# EAGLE library part TPS54229_DDA_8 (library 0_soofa_library)
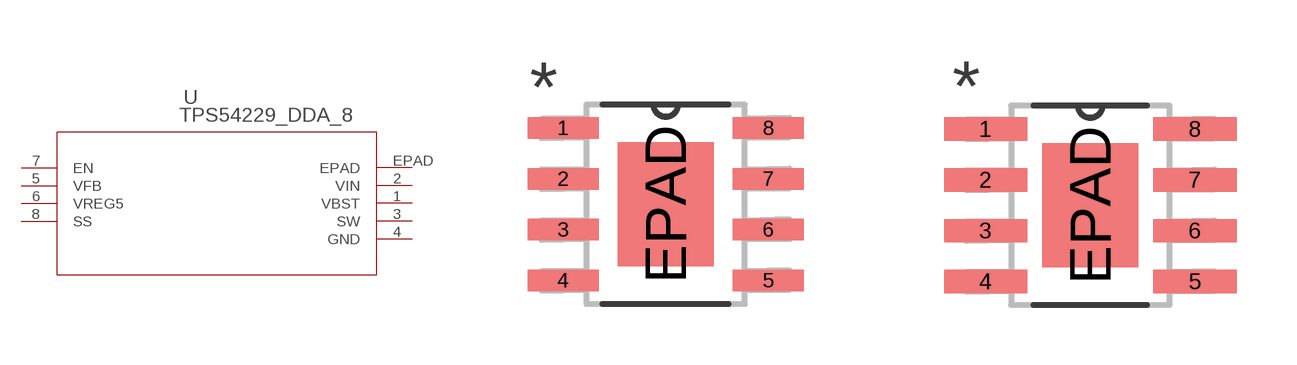
[diagram p15: symbol with the pads of DDA8_3P1X2P4; footprints DDA8_3P1X2P4, DDA8_3P1X2P4-M]

Designator prefix U

## TPS54229_DDA_8 (MANUFACTURER_PART_NUMBER: tps54229_dda_8; VENDOR: Texas Instruments)  [DDA8_3P1X2P4]
1  VBST  pas
2  VIN  in
3  SW  pas
4  GND  pwr
5  VFB  in
6  VREG5  out
7  EN  in
8  SS  pas
EPAD  EPAD  pas

## TPS54229_DDA_8DDA8_3P1X2P4-M (MANUFACTURER_PART_NUMBER: tps54229_dda_8; VENDOR: Texas Instruments)  [DDA8_3P1X2P4-M]
1  EN  in
2  VFB  in
3  VREG5  out
4  SS  pas
5  GND  pwr
6  SW  pas
7  VBST  pas
8  VIN  in
EPAD  EPAD  pas

## TPS54229_DDA_8DDA8_3P1X2P4-L (MANUFACTURER_PART_NUMBER: tps54229_dda_8; VENDOR: Texas Instruments)  [DDA8_3P1X2P4-L]
Pads as for DDA8_3P1X2P4-M

## Footprint DDA8_3P1X2P4 (pad centres in mm)
smd 1.778 x 0.533: 1 -2.565,1.905; 2 -2.565,0.635; 3 -2.565,-0.635; 4 -2.565,-1.905; 5 2.565,-1.905; 6 2.565,-0.635; 7 2.565,0.635; 8 2.565,1.905
smd 2.4 x 3.1: EPAD 0,0

## Footprint DDA8_3P1X2P4-M (pad centres in mm)
smd 2.083 x 0.584: 1 -2.616,1.905; 2 -2.616,0.635; 3 -2.616,-0.635; 4 -2.616,-1.905; 5 2.616,-1.905; 6 2.616,-0.635; 7 2.616,0.635; 8 2.616,1.905
smd 2.4 x 3.1: EPAD 0,0

## Footprint DDA8_3P1X2P4-L (pad centres in mm)
smd 1.473 x 0.483: 1 -2.515,1.905; 2 -2.515,0.635; 3 -2.515,-0.635; 4 -2.515,-1.905; 5 2.515,-1.905; 6 2.515,-0.635; 7 2.515,0.635; 8 2.515,1.905
smd 2.4 x 3.1: EPAD 0,0